# Altium schematic symbol library TPS70445_PWP_24.SCHLIB: 1 symbol
Pins are listed as number, name and electrical type; pins without a type are passive.

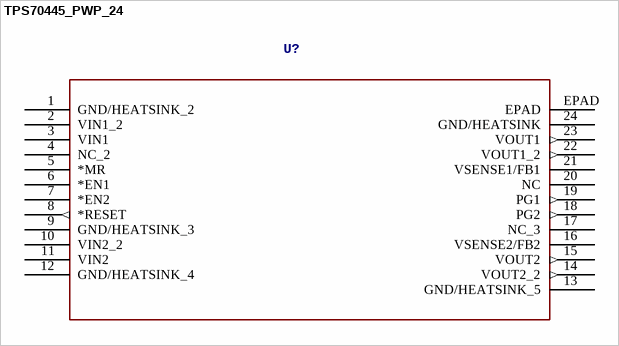
[diagram p0: symbol TPS70445_PWP_24]

## TPS70445_PWP_24
designator U?
GENERIC_PART_NUMBER: TPS70445; MANUFACTURER: Texas Instruments; MANUFACTURER_PART_NUMBER: tps70445_pwp_24; DESCRIPTION: Dual-output (3.3V/1.2V)1A/2A LDO Regulator with dual enables and SVS for split-voltage systems; FAMILY_NAME: DUAL CHANNEL LDO; INDUSTRY_STD_PKG_TYPE: HTSSOP; PACKAGE_DESIGNATOR: PWP; PIN_COUNT: 24; DATASHEETURL: http://www.ti.com/lit/gpn/TPS70445; VENDOR: Texas Instruments
footprint PWP24_4P68X2P4
pins: 1 GND/HEATSINK_2 (power), 2 VIN1_2, 3 VIN1, 4 NC_2, 5 *MR, 6 *EN1, 7 *EN2, 8 *RESET (out), 9 GND/HEATSINK_3 (power), 10 VIN2_2, 11 VIN2, 12 GND/HEATSINK_4 (power), 13 GND/HEATSINK_5 (power), 14 VOUT2_2 (out), 15 VOUT2 (out), 16 VSENSE2/FB2, 17 NC_3, 18 PG2 (out), 19 PG1 (out), 20 NC, 21 VSENSE1/FB1, 22 VOUT1_2 (out), 23 VOUT1 (out), 24 GND/HEATSINK (power), EPAD